# EAGLE library part DS1307 (library blinkinlabs)
DS1307 Real time clock (RTC) with battery backup ability. Talk to it via i2c
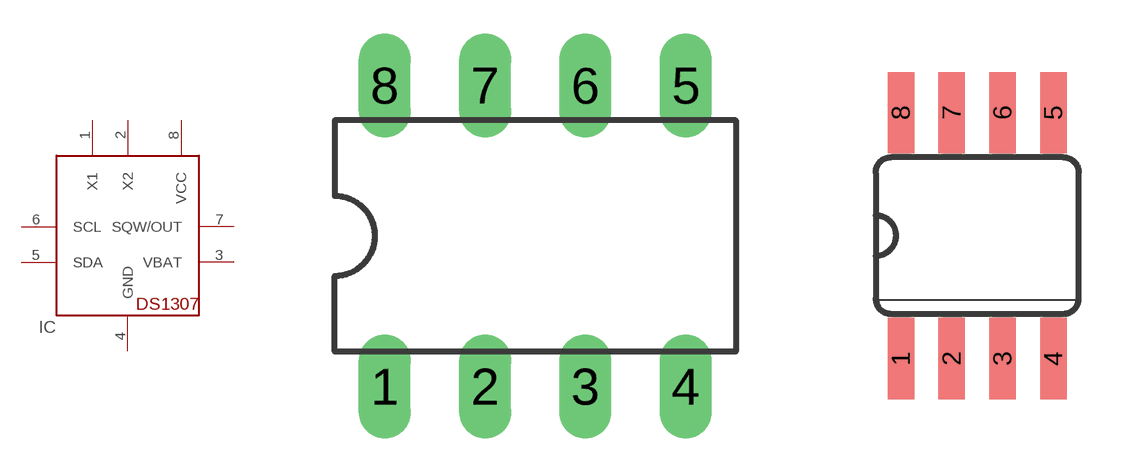
[diagram p5: symbol with the pads of DIL08; footprints DIL08, SO08]

Designator prefix IC

## DS1307  [DIL08]
1  X1  pas
2  X2  pas
3  VBAT  pwr
4  GND  pwr
5  SDA
6  SCL
7  SQW/OUT
8  VCC  pwr

## DS1307SO08  [SO08]
Pads as for DIL08

## Footprint DIL08 (pad centres in mm)
Dual In Line Package
drill 0.813 long: 1 -3.81,-3.81; 2 -1.27,-3.81; 3 1.27,-3.81; 4 3.81,-3.81; 5 3.81,3.81; 6 1.27,3.81; 7 -1.27,3.81; 8 -3.81,3.81

## Footprint SO08 (pad centres in mm)
Small Outline package 8 150 mil
smd 0.66 x 2.032: 1 -1.905,-3.073; 2 -0.635,-3.073; 3 0.635,-3.073; 4 1.905,-3.073; 5 1.905,3.073; 6 0.635,3.073; 7 -0.635,3.073; 8 -1.905,3.073